# Altium integrated library ECS-160-20-46X.IntLib: 1 symbol
Pins are listed as number, name and electrical type; pins without a type are passive.

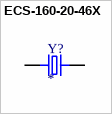
[diagram p0: symbol ECS-160-20-46X]

## ECS-160-20-46X
designator Y?
16 MHz Â±30ppm Crystal 20pF 50 Ohms HC-46/X; MP: ECS-160-20-46X; MF: ECS Inc.; Check_prices: https://www.snapeda.com/parts/ECS-160-20-46X/ECS+Inc./view-part/?ref=eda; Purchase-URL: https://pricing.snapeda.com/search/part/ECS-160-20-46X/?ref=eda; Value: *; SnapEDA_Link: https://www.snapeda.com/parts/ECS-160-20-46X/ECS+Inc./view-part/?ref=snap; Availability: In Stock; Price: None; Package: HC46/X ECS International
footprint XTAL_ECS-160-20-46X
pins: 1, 2